# Altium footprint library B25654A_XX_001.PcbLib: 1 footprints
Each footprint in its own frame and in the unit in brackets; x right, y up, seen from the top. Pads: shape width x height; smd on the part's side, far side on the other; paste and mask are expansions set on the pad; w line width, h text height; cw(c..) or ccw(c..) is an arc to the next point about the centre after c.
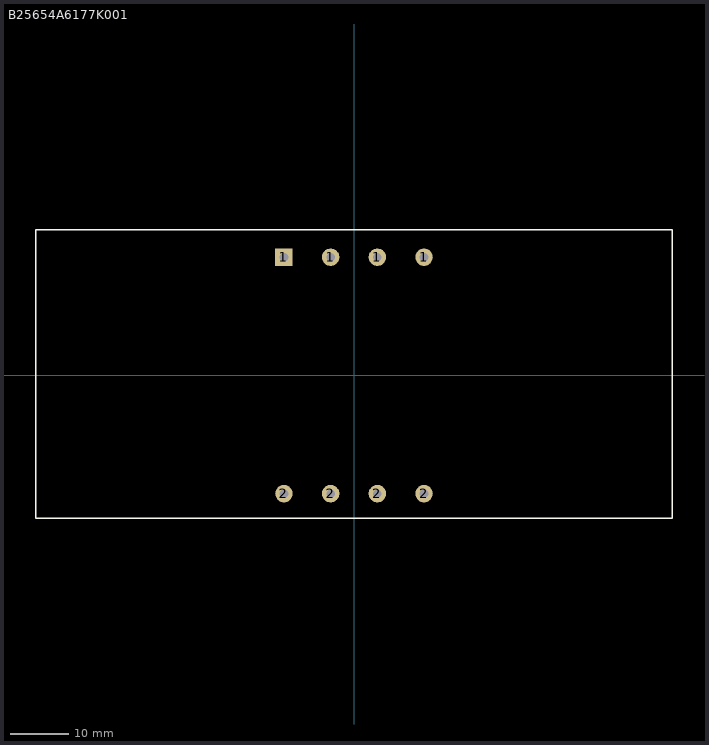
[diagram p0: the footprint, top view; thin cyan lines are the x and y axes]

## B25654A6177K001 [mm]
pads (8):
  rect 3x3 hole 1.5 square: 1(-12,20.25)
  round 3 hole 1.5: 1(-4,20.25) 1(4,20.25) 1(12,20.25) 2(-12,-20.25) 2(-4,-20.25) 2(4,-20.25) 2(12,-20.25)
Top Overlay:
  lines w0.254: -54.5,-24.5 54.5,-24.5 54.5,25 -54.5,25 -54.5,-24.5
3D body "xevcap_type_c_wire_lead.step": height 6, standoff -40.5, extent -54.5,-24.72 54.5,24.72